# Altium schematic symbol library ADPL44002AUJZ-3.3-R7.SchLib: 1 symbol
Pins are listed as number, name and electrical type; pins without a type are passive.

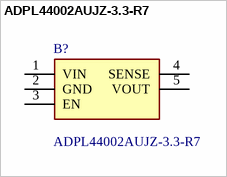
[diagram p0: symbol ADPL44002AUJZ-3.3-R7]

## ADPL44002AUJZ-3.3-R7
designator B?
40V, 200mA, Low Noise, CMOS LDO Linear Regulator; Manufacturer_Name: Analog Devices; Geometry.Height: 1mm; Mouser Part Number: 584-PL44002AUJZ33R7; Mouser Price/Stock: https://www.mouser.co.uk/ProductDetail/Analog-Devices/ADPL44002AUJZ-3.3-R7?qs=%252BXxaIXUDbq3bLG2Aqffs8Q%3D%3D; Manufacturer_Part_Number: ADPL44002AUJZ-3.3-R7; Datasheet Link: https://www.analog.com/ADPL44002/datasheet
footprint SOT95P280X100-5N
pins: 1 VIN, 2 GND, 3 EN, 4 SENSE, 5 VOUT